# Altium schematic symbol library AN2051-245.SCHLIB: 1 symbol
Pins are listed as number, name and electrical type; pins without a type are passive.

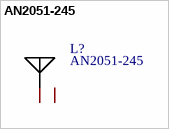
[diagram p0: symbol AN2051-245]

## AN2051-245
designator L?
Manufacturer: rainsun(霖昱微); Add into BOM: yes; Symbol: AN2051-245; Device: AN2051-245; Supplier: LCSC; Manufacturer Part: AN2051-245; Supplier Part: C99727; JLCPCB Part Class: 扩展库; LCSC Part Name: AN2051-245; Supplier Footprint: SMD,2x5.1mm; Datasheet: https://atta.szlcsc.com/upload/public/pdf/source/20170329/1490752053541.pdf; Convert to PCB: yes; Name: AN2051-245
footprint ANT2051
pins: 1 ANT, 2